# Altium schematic symbol library 5075BMR-05-SM.Schlib: 1 symbol
Pins are listed as number, name and electrical type; pins without a type are passive.

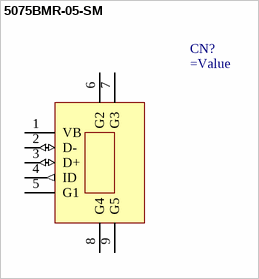
[diagram p0: symbol 5075BMR-05-SM]

## 5075BMR-05-SM
designator CN?
=Description
pins: 1 VB (power), 2 D- (io), 3 D+ (io), 4 ID (out), 5 G1 (power), 6 G2, 7 G3, 8 G4, 9 G5